# Altium schematic symbol library LM1117.Schlib: 1 symbol
Pins are listed as number, name and electrical type; pins without a type are passive.

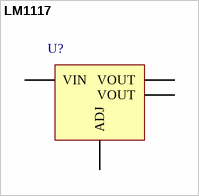
[diagram p0: symbol LM1117]

## LM1117
designator U?  (value not drawn)
Linear Regulator
pins: 1 ADJ, 2 VOUT, 3 VIN, 4 VOUT